# EAGLE library part 47346-0001 (library 47346-0001)
Micro USB B Receptacle Bottom Mount Assy Molex Right Angle SMT Type B Version 2.0 Micro USB Connector Socket, 30 V ac, 1A 47352 MICRO-USB Source: Datasheet <http://www.molex.com/pdm_docs/sd/473460001_sd.pdf>
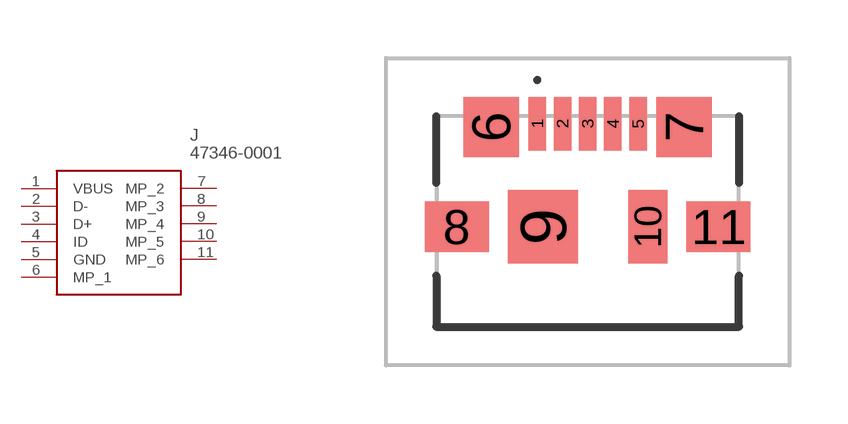
[diagram p0: symbol with the pads of 473460001; footprint 473460001]

Designator prefix J

## 47346-0001 (Description: Micro USB B Receptacle Bottom Mount Assy Molex Right Angle SMT Type B Version 2.0 Micro USB Connector Socket, 30 V ac, 1A 47352 MICRO-USB; Height: 3.19mm; Manufacturer_Name: Molex; Manufacturer_Part_Number: 47346-0001)  [473460001]
1  VBUS
2  D-
3  D+
4  ID
5  GND
6  MP_1
7  MP_2
8  MP_3
9  MP_4
10  MP_5
11  MP_6

## Footprint 473460001 (pad centres in mm)
47346-0001-12
smd 0.45 x 1.38: 1 -1.3,2.525; 2 -0.65,2.525; 3 0,2.525; 4 0.65,2.525; 5 1.3,2.525
smd 1.425 x 1.55: 6 -2.487,2.44; 7 2.487,2.44
smd 1.65 x 1.3: 8 -3.375,-0.135; 11 3.375,-0.135
smd 1.8 x 1.9: 9 -1.15,-0.135
smd 1 x 1.9: 10 1.55,-0.135